# Altium footprint library EEHZA1E101XP.PcbLib: 1 footprints
Each footprint in its own frame and in the unit in brackets; x right, y up, seen from the top. Pads: shape width x height; smd on the part's side, far side on the other; paste and mask are expansions set on the pad; w line width, h text height; cw(c..) or ccw(c..) is an arc to the next point about the centre after c.
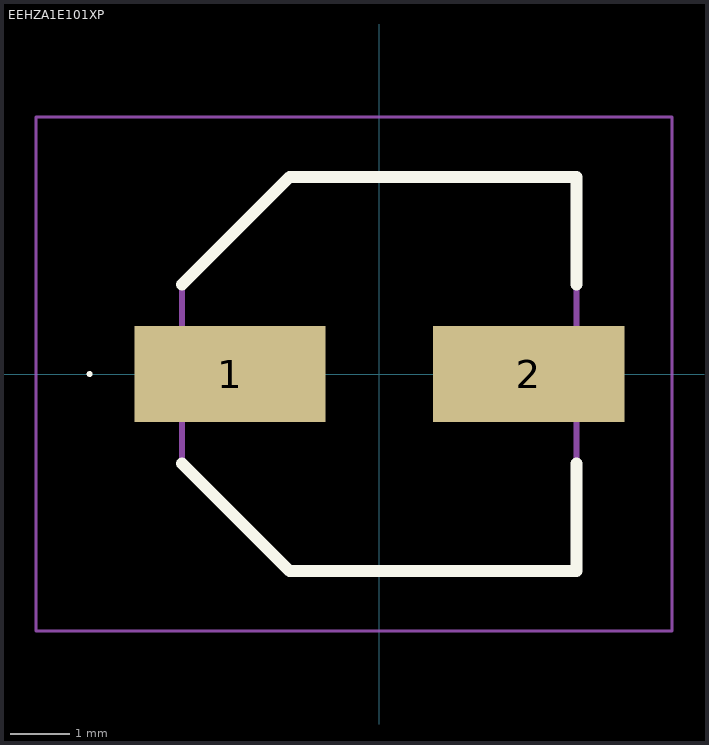
[diagram p0: the footprint, top view; thin cyan lines are the x and y axes]

## EEHZA1E101XP [mm]
pads (2):
  rect 3.2x1.6 smd: 1(-2.5,0) 2(2.5,0)
Top Overlay:
  lines w0.05: -4.875,0 cw(c-4.85,0) -4.825,0 cw(c-4.85,0) -4.875,0
  lines w0.2: -3.3,-1.5 -1.5,-3.3 3.3,-3.3 3.3,-1.5 ; -3.3,1.5 -1.5,3.3 3.3,3.3 3.3,1.5
Mechanical 15:
  lines w0.1: -3.3,1.5 -1.5,3.3 ; -3.3,1.5 -3.3,-1.5 -1.5,-3.3 3.3,-3.3 3.3,3.3 -1.5,3.3 ; -3.3,1.5 -1.5,3.3
Mechanical 20:
  lines w0.05: -5.75,-4.3 -5.75,4.3 4.9,4.3 4.9,-4.3 -5.75,-4.3
3D body "EEH-ZA1E101XP.stp": height 5.8, standoff 0, extent -3.523,-3.3 3.777,3.3